# Altium schematic symbol library Schlib1.SchLib: 6 symbols
Pins are listed as number, name and electrical type; pins without a type are passive.

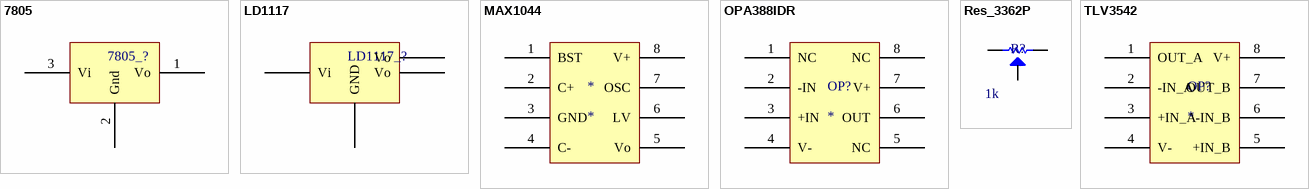
[diagram p0: symbols 7805 to TLV3542]

## 7805
designator 7805_?  (value not drawn)
footprint TO-92
pins: 1 Vo, 2 Gnd, 3 Vi

## LD1117
designator LD1117_?  (value not drawn)
footprint SOT230P700X180-4N (SOT223, 4-Leads, Body 6.50x7.00mm (avg), Pitch 2.30mm, IPC Medium Density)
pins: 1 GND, 2 Vo, 3 Vi, 4 Vo

## MAX1044
designator *
footprint SOIC127P600X175-8N (SOIC, 8-Leads, Body 4.90x3.90mm, Pitch 1.27mm, IPC Medium Density)
pins: 1 BST, 2 C+, 3 GND, 4 C-, 5 Vo, 6 LV, 7 OSC, 8 V+

## OPA388IDR
designator OP?
footprint SOIC127P600X175-8N (SOIC, 8-Leads, Body 4.90x3.90mm, Pitch 1.27mm, IPC Medium Density)
pins: 1 NC, 2 -IN, 3 +IN, 4 V-, 5 NC, 6 OUT, 7 V+, 8 NC

## Res_3362P
designator R?  value 1k  (hidden comment: Res_3362P)
footprint 3362P
pins: 1, 2, 3

## TLV3542
designator OP?
footprint SOIC127P600X175-8N (SOIC, 8-Leads, Body 4.90x3.90mm, Pitch 1.27mm, IPC Medium Density)
pins: 1 OUT_A, 2 -IN_A, 3 +IN_A, 4 V-, 5 +IN_B, 6 -IN_B, 7 OUT_B, 8 V+